# Altium schematic symbol library MCU_Microchip_ATtiny.SchLib: 223 symbols (part 4 of 4)
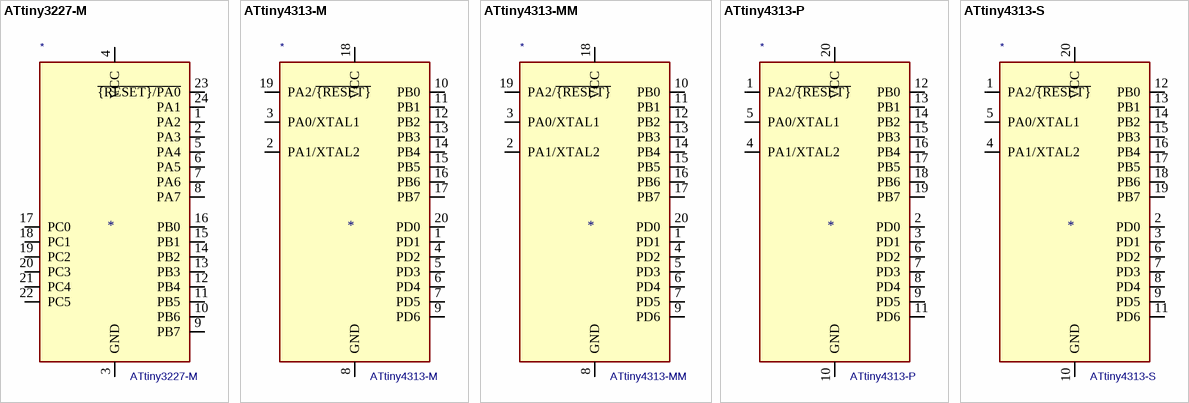
[diagram p12: symbols ATtiny3227-M to ATtiny4313-S]

## ATtiny4313-MM
designator *  value ATtiny4313-MM
ki_keywords: AVR 8bit Microcontroller tinyAVR; ki_description: 20MHz, 4kB Flash, 256B SRAM, 256B EEPROM, QFN-20; ki_fp_filters: VQFN*1EP*3x3mm*P0.45mm*; Footprint: Package_DFN_QFN:VQFN-20-1EP_3x3mm_P0.45mm_EP1.55x1.55mm; Supplier: http://ww1.microchip.com/downloads/en/DeviceDoc/doc8246.pdf
footprint VQFN-20-1EP_3x3mm_P0.45mm_EP1.55x1.55mm
pins: 1 PD1 (io), 2 PA1/XTAL2 (io), 3 PA0/XTAL1 (io), 4 PD2 (io), 5 PD3 (io), 6 PD4 (io), 7 PD5 (io), 8 GND (power), 9 PD6 (io), 10 PB0 (io), 11 PB1 (io), 12 PB2 (io), 13 PB3 (io), 14 PB4 (io), 15 PB5 (io), 16 PB6 (io), 17 PB7 (io), 18 VCC (power), 19 PA2/~{{RESET}} (io), 20 PD0 (io), 21 GND hidden

## ATtiny4313-P
designator *  value ATtiny4313-P
ki_keywords: AVR 8bit Microcontroller tinyAVR; ki_description: 20MHz, 4kB Flash, 256B SRAM, 256B EEPROM, DIP-20; ki_fp_filters: DIP*W7.62mm*; Footprint: Package_DIP:DIP-20_W7.62mm; Supplier: http://ww1.microchip.com/downloads/en/DeviceDoc/doc8246.pdf
footprint DIP-20_W7.62mm
pins: 1 PA2/~{{RESET}} (io), 2 PD0 (io), 3 PD1 (io), 4 PA1/XTAL2 (io), 5 PA0/XTAL1 (io), 6 PD2 (io), 7 PD3 (io), 8 PD4 (io), 9 PD5 (io), 10 GND (power), 11 PD6 (io), 12 PB0 (io), 13 PB1 (io), 14 PB2 (io), 15 PB3 (io), 16 PB4 (io), 17 PB5 (io), 18 PB6 (io), 19 PB7 (io), 20 VCC (power)

## ATtiny4313-S
designator *  value ATtiny4313-S
ki_keywords: AVR 8bit Microcontroller tinyAVR; ki_description: 20MHz, 4kB Flash, 256B SRAM, 256B EEPROM, SOIC-20; ki_fp_filters: SOIC*7.5x12.8mm*P1.27mm*; Footprint: Package_SO:SOIC-20W_7.5x12.8mm_P1.27mm; Supplier: http://ww1.microchip.com/downloads/en/DeviceDoc/doc8246.pdf
footprint SOIC-20W_7.5x12.8mm_P1.27mm
pins: 1 PA2/~{{RESET}} (io), 2 PD0 (io), 3 PD1 (io), 4 PA1/XTAL2 (io), 5 PA0/XTAL1 (io), 6 PD2 (io), 7 PD3 (io), 8 PD4 (io), 9 PD5 (io), 10 GND (power), 11 PD6 (io), 12 PB0 (io), 13 PB1 (io), 14 PB2 (io), 15 PB3 (io), 16 PB4 (io), 17 PB5 (io), 18 PB6 (io), 19 PB7 (io), 20 VCC (power)